# Altium schematic symbol library PEC11R.SchLib: 1 symbol
Pins are listed as number, name and electrical type; pins without a type are passive.

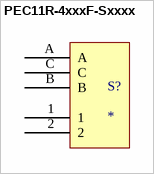
[diagram p0: symbol PEC11R-4xxxF-Sxxxx]

## PEC11R-4xxxF-Sxxxx
designator S?
pins: 1, 2, A, B, C